# Altium footprint library 61030621821.PcbLib: 1 footprints
Each footprint in its own frame and in the unit in brackets; x right, y up, seen from the top. Pads: shape width x height; smd on the part's side, far side on the other; paste and mask are expansions set on the pad; w line width, h text height; cw(c..) or ccw(c..) is an arc to the next point about the centre after c.
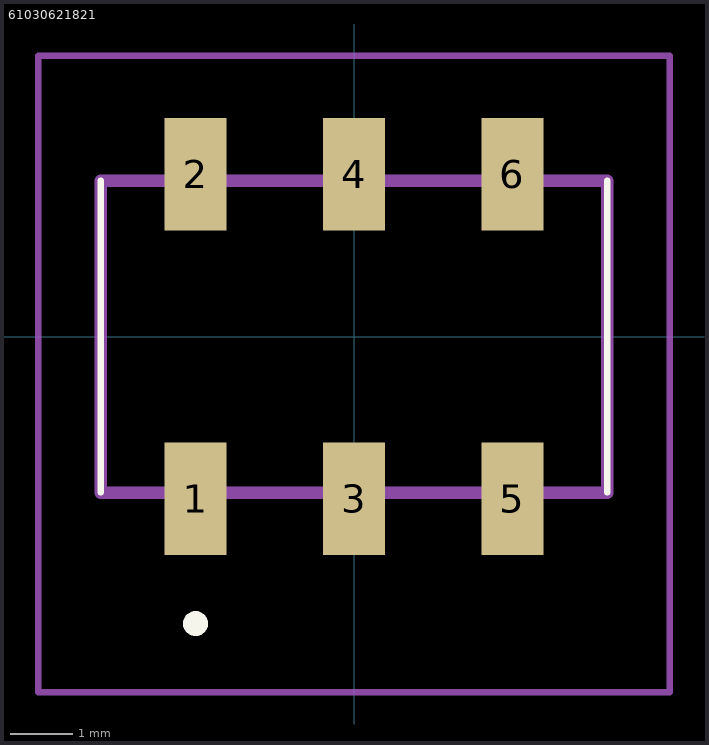
[diagram p0: the footprint, top view; thin cyan lines are the x and y axes]

## 61030621821 [mm]
pads (6):
  rect 1x1.8 smd: 1(-2.54,-2.6) 2(-2.54,2.6) 3(0,-2.6) 4(0,2.6) 5(2.54,-2.6) 6(2.54,2.6)
Top Overlay:
  lines w0.1: -4.06,-2.5 -4.06,2.5 ; 4.06,-2.5 4.06,2.5
  lines w0.2: -2.54,-4.7 cw(c-2.54,-4.6) -2.54,-4.5 ; -2.54,-4.7 -2.54,-4.7 ; -2.54,-4.7 ccw(c-2.54,-4.6) -2.54,-4.5 ; -2.54,-4.5 -2.54,-4.5
Mechanical 15:
  lines w0.2: -4.06,-2.5 4.06,-2.5 4.06,2.5 -4.06,2.5 -4.06,-2.5
Mechanical 20:
  lines w0.1: -5.06,-5.7 5.06,-5.7 5.06,4.5 -5.06,4.5 -5.06,-5.7